# Altium integrated library Analog Devices Data Converters Analog-to-Digital Converters.IntLib: 2400 symbols (part 333 of 338)
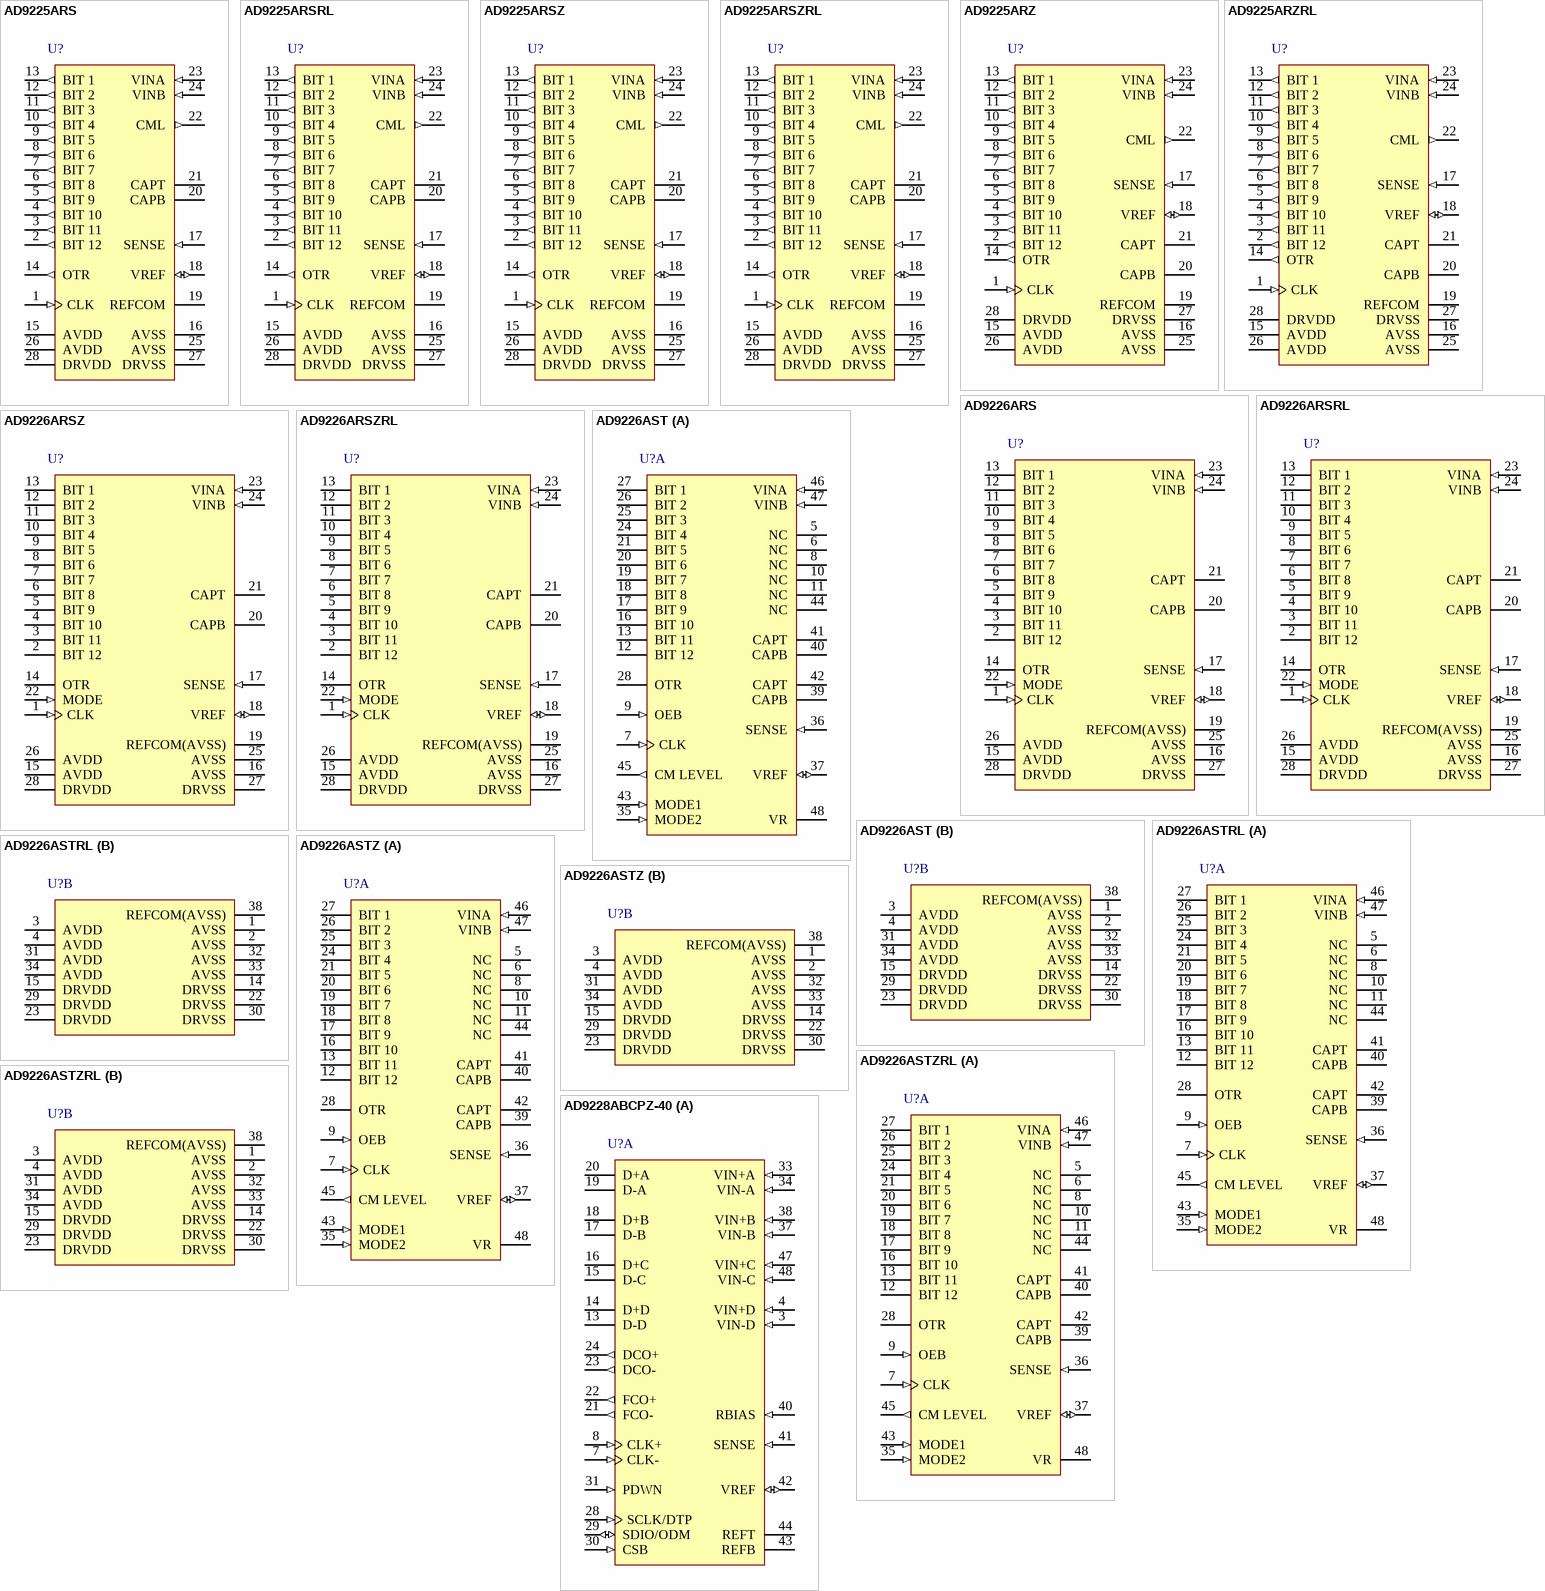
[diagram p336: symbols AD9225ARS to AD9228ABCPZ-40]

## AD9226AST
designator U?
Single 12-Bit Analog-to-Digital Converter with Parallel Interface, 65MSPS, -40 to +85 degC, ST-48, Tray; Part Number: AD9226; Manufacturer: Analog Devices; Resolution (Bits): 12; Channels: 1; Throughput Rate (SPS): 65M; Interface: Par; DatasheetVersion: Rev.B; PackageVersion: revA; PackageReference: ST-48; PackageDescription: 48-Pin Thin Quad Flat Pack 0.5 mm Pitch; RoHS: N; Packing: Tray; Mounting Technology: Surface Mount; ComponentLink1Description: Manufacturer URL; ComponentLink1URL: http://www.analog.com/en/index.html; ComponentLink2Description: Datasheet; ComponentLink2URL: http://www.analog.com/static/imported-files/data_sheets/AD9226.pdf; ComponentLink3Description: Package Specification; ComponentLink3URL: http://www.analog.com/static/imported-files/packages/PKG_PDF/LQFP%28ST%29/ST_48.pdf; ComponentLink4Description: Product URL; ComponentLink4URL: http://www.analog.com/en/analog-to-digital-converters/ad-converters/ad9226/products/product.html
footprint ST-48_N (Thin QFP, 48-Leads, Body 7x7mm, Pitch 0.5mm, IPC Medium Density)
footprint ST-48_L (Thin QFP, 48-Leads, Body 7x7mm, Pitch 0.5mm, IPC High Density)
footprint ST-48_M (Thin QFP, 48-Leads, Body 7x7mm, Pitch 0.5mm, IPC Low Density)
part A pins: 5 NC "No Connect", 6 NC "No Connect", 7 CLK (in) "Clock Input Pin", 8 NC "No Connect", 9 OEB (in) "O\u\t\p\u\t\_\E\n\a\b\l\e\ (Active Low)", 10 NC "No Connect", 11 NC "No Connect", 12 BIT 12 (hiz) "Least Significant Data Bit (LSB)", 13 BIT 11 (hiz) "Data Output Bit", 16 BIT 10 (hiz) "Data Output Bit", 17 BIT 9 (hiz) "Data Output Bit", 18 BIT 8 (hiz) "Data Output Bit", 19 BIT 7 (hiz) "Data Output Bit", 20 BIT 6 (hiz) "Data Output Bit", 21 BIT 5 (hiz) "Data Output Bit", 24 BIT 4 (hiz) "Data Output Bit", 25 BIT 3 (hiz) "Data Output Bit", 26 BIT 2 (hiz) "Data Output Bit", 27 BIT 1 (hiz) "Most Significant Data Bit (MSB)", 28 OTR (hiz) "Out of Range", 35 MODE2 (in) "Data Format Select", 36 SENSE (in) "Reference Select", 37 VREF (io) "Reference In/Out", 39 CAPB "Noise Reduction Pin", 40 CAPB "Noise Reduction Pin", 41 CAPT "Noise Reduction Pin", 42 CAPT "Noise Reduction Pin", 43 MODE1 (in) "Clock Stabilizer", 44 NC "No Connect", 45 CM LEVEL (out) "Midsupply Reference", 46 VINA (in) "Analog Input Pin (+)", 47 VINB (in) "Analog Input Pin (-)", 48 VR "Noise Reduction Pin"
part B pins: 1 AVSS (power) "Analog Ground", 2 AVSS (power) "Analog Ground", 3 AVDD (power) "5 V Analog Supply", 4 AVDD (power) "5 V Analog Supply", 14 DRVSS (power) "Digital Output Driver Ground", 15 DRVDD (power) "3 V to 5 V Digital Output Driver Supply", 22 DRVSS (power) "Digital Output Driver Ground", 23 DRVDD (power) "3 V to 5 V Digital Output Driver Supply", 29 DRVDD (power) "3 V to 5 V Digital Output Driver Supply", 30 DRVSS (power) "Digital Output Driver Ground", 31 AVDD (power) "5 V Analog Supply", 32 AVSS (power) "Analog Ground", 33 AVSS (power) "Analog Ground", 34 AVDD (power) "5 V Analog Supply", 38 REFCOM(AVSS) (power) "Reference Common"

## AD9226ASTRL
designator U?
Single 12-Bit Analog-to-Digital Converter with Parallel Interface, 65MSPS, -40 to +85 degC, ST-48, Reel; Part Number: AD9226; Manufacturer: Analog Devices; Resolution (Bits): 12; Channels: 1; Throughput Rate (SPS): 65M; Interface: Par; DatasheetVersion: Rev.B; PackageVersion: revA; PackageReference: ST-48; PackageDescription: 48-Pin Thin Quad Flat Pack 0.5 mm Pitch; RoHS: N; Packing: Reel; Mounting Technology: Surface Mount; ComponentLink1Description: Manufacturer URL; ComponentLink1URL: http://www.analog.com/en/index.html; ComponentLink2Description: Datasheet; ComponentLink2URL: http://www.analog.com/static/imported-files/data_sheets/AD9226.pdf; ComponentLink3Description: Package Specification; ComponentLink3URL: http://www.analog.com/static/imported-files/packages/PKG_PDF/LQFP%28ST%29/ST_48.pdf; ComponentLink4Description: Product URL; ComponentLink4URL: http://www.analog.com/en/analog-to-digital-converters/ad-converters/ad9226/products/product.html
footprint ST-48_N (Thin QFP, 48-Leads, Body 7x7mm, Pitch 0.5mm, IPC Medium Density)
footprint ST-48_L (Thin QFP, 48-Leads, Body 7x7mm, Pitch 0.5mm, IPC High Density)
footprint ST-48_M (Thin QFP, 48-Leads, Body 7x7mm, Pitch 0.5mm, IPC Low Density)
part A pins: 5 NC "No Connect", 6 NC "No Connect", 7 CLK (in) "Clock Input Pin", 8 NC "No Connect", 9 OEB (in) "O\u\t\p\u\t\_\E\n\a\b\l\e\ (Active Low)", 10 NC "No Connect", 11 NC "No Connect", 12 BIT 12 (hiz) "Least Significant Data Bit (LSB)", 13 BIT 11 (hiz) "Data Output Bit", 16 BIT 10 (hiz) "Data Output Bit", 17 BIT 9 (hiz) "Data Output Bit", 18 BIT 8 (hiz) "Data Output Bit", 19 BIT 7 (hiz) "Data Output Bit", 20 BIT 6 (hiz) "Data Output Bit", 21 BIT 5 (hiz) "Data Output Bit", 24 BIT 4 (hiz) "Data Output Bit", 25 BIT 3 (hiz) "Data Output Bit", 26 BIT 2 (hiz) "Data Output Bit", 27 BIT 1 (hiz) "Most Significant Data Bit (MSB)", 28 OTR (hiz) "Out of Range", 35 MODE2 (in) "Data Format Select", 36 SENSE (in) "Reference Select", 37 VREF (io) "Reference In/Out", 39 CAPB "Noise Reduction Pin", 40 CAPB "Noise Reduction Pin", 41 CAPT "Noise Reduction Pin", 42 CAPT "Noise Reduction Pin", 43 MODE1 (in) "Clock Stabilizer", 44 NC "No Connect", 45 CM LEVEL (out) "Midsupply Reference", 46 VINA (in) "Analog Input Pin (+)", 47 VINB (in) "Analog Input Pin (-)", 48 VR "Noise Reduction Pin"
part B pins: 1 AVSS (power) "Analog Ground", 2 AVSS (power) "Analog Ground", 3 AVDD (power) "5 V Analog Supply", 4 AVDD (power) "5 V Analog Supply", 14 DRVSS (power) "Digital Output Driver Ground", 15 DRVDD (power) "3 V to 5 V Digital Output Driver Supply", 22 DRVSS (power) "Digital Output Driver Ground", 23 DRVDD (power) "3 V to 5 V Digital Output Driver Supply", 29 DRVDD (power) "3 V to 5 V Digital Output Driver Supply", 30 DRVSS (power) "Digital Output Driver Ground", 31 AVDD (power) "5 V Analog Supply", 32 AVSS (power) "Analog Ground", 33 AVSS (power) "Analog Ground", 34 AVDD (power) "5 V Analog Supply", 38 REFCOM(AVSS) (power) "Reference Common"

## AD9226ASTZ
designator U?
Single 12-Bit Analog-to-Digital Converter with Parallel Interface, 65MSPS, -40 to +85 degC, ST-48, Pb-Free, Tray; Part Number: AD9226; Manufacturer: Analog Devices; Resolution (Bits): 12; Channels: 1; Throughput Rate (SPS): 65M; Interface: Par; DatasheetVersion: Rev.B; PackageVersion: revA; PackageReference: ST-48; PackageDescription: 48-Pin Thin Quad Flat Pack 0.5 mm Pitch; RoHS: Y; Packing: Tray; Mounting Technology: Surface Mount; ComponentLink1Description: Manufacturer URL; ComponentLink1URL: http://www.analog.com/en/index.html; ComponentLink2Description: Datasheet; ComponentLink2URL: http://www.analog.com/static/imported-files/data_sheets/AD9226.pdf; ComponentLink3Description: Package Specification; ComponentLink3URL: http://www.analog.com/static/imported-files/packages/PKG_PDF/LQFP%28ST%29/ST_48.pdf; ComponentLink4Description: Product URL; ComponentLink4URL: http://www.analog.com/en/analog-to-digital-converters/ad-converters/ad9226/products/product.html
footprint ST-48_N (Thin QFP, 48-Leads, Body 7x7mm, Pitch 0.5mm, IPC Medium Density)
footprint ST-48_L (Thin QFP, 48-Leads, Body 7x7mm, Pitch 0.5mm, IPC High Density)
footprint ST-48_M (Thin QFP, 48-Leads, Body 7x7mm, Pitch 0.5mm, IPC Low Density)
part A pins: 5 NC "No Connect", 6 NC "No Connect", 7 CLK (in) "Clock Input Pin", 8 NC "No Connect", 9 OEB (in) "O\u\t\p\u\t\_\E\n\a\b\l\e\ (Active Low)", 10 NC "No Connect", 11 NC "No Connect", 12 BIT 12 (hiz) "Least Significant Data Bit (LSB)", 13 BIT 11 (hiz) "Data Output Bit", 16 BIT 10 (hiz) "Data Output Bit", 17 BIT 9 (hiz) "Data Output Bit", 18 BIT 8 (hiz) "Data Output Bit", 19 BIT 7 (hiz) "Data Output Bit", 20 BIT 6 (hiz) "Data Output Bit", 21 BIT 5 (hiz) "Data Output Bit", 24 BIT 4 (hiz) "Data Output Bit", 25 BIT 3 (hiz) "Data Output Bit", 26 BIT 2 (hiz) "Data Output Bit", 27 BIT 1 (hiz) "Most Significant Data Bit (MSB)", 28 OTR (hiz) "Out of Range", 35 MODE2 (in) "Data Format Select", 36 SENSE (in) "Reference Select", 37 VREF (io) "Reference In/Out", 39 CAPB "Noise Reduction Pin", 40 CAPB "Noise Reduction Pin", 41 CAPT "Noise Reduction Pin", 42 CAPT "Noise Reduction Pin", 43 MODE1 (in) "Clock Stabilizer", 44 NC "No Connect", 45 CM LEVEL (out) "Midsupply Reference", 46 VINA (in) "Analog Input Pin (+)", 47 VINB (in) "Analog Input Pin (-)", 48 VR "Noise Reduction Pin"
part B pins: 1 AVSS (power) "Analog Ground", 2 AVSS (power) "Analog Ground", 3 AVDD (power) "5 V Analog Supply", 4 AVDD (power) "5 V Analog Supply", 14 DRVSS (power) "Digital Output Driver Ground", 15 DRVDD (power) "3 V to 5 V Digital Output Driver Supply", 22 DRVSS (power) "Digital Output Driver Ground", 23 DRVDD (power) "3 V to 5 V Digital Output Driver Supply", 29 DRVDD (power) "3 V to 5 V Digital Output Driver Supply", 30 DRVSS (power) "Digital Output Driver Ground", 31 AVDD (power) "5 V Analog Supply", 32 AVSS (power) "Analog Ground", 33 AVSS (power) "Analog Ground", 34 AVDD (power) "5 V Analog Supply", 38 REFCOM(AVSS) (power) "Reference Common"

## AD9226ASTZRL
designator U?
Single 12-Bit Analog-to-Digital Converter with Parallel Interface, 65MSPS, -40 to +85 degC, ST-48, Pb-Free, Reel; Part Number: AD9226; Manufacturer: Analog Devices; Resolution (Bits): 12; Channels: 1; Throughput Rate (SPS): 65M; Interface: Par; DatasheetVersion: Rev.B; PackageVersion: revA; PackageReference: ST-48; PackageDescription: 48-Pin Thin Quad Flat Pack 0.5 mm Pitch; RoHS: Y; Packing: Reel; Mounting Technology: Surface Mount; ComponentLink1Description: Manufacturer URL; ComponentLink1URL: http://www.analog.com/en/index.html; ComponentLink2Description: Datasheet; ComponentLink2URL: http://www.analog.com/static/imported-files/data_sheets/AD9226.pdf; ComponentLink3Description: Package Specification; ComponentLink3URL: http://www.analog.com/static/imported-files/packages/PKG_PDF/LQFP%28ST%29/ST_48.pdf; ComponentLink4Description: Product URL; ComponentLink4URL: http://www.analog.com/en/analog-to-digital-converters/ad-converters/ad9226/products/product.html
footprint ST-48_N (Thin QFP, 48-Leads, Body 7x7mm, Pitch 0.5mm, IPC Medium Density)
footprint ST-48_L (Thin QFP, 48-Leads, Body 7x7mm, Pitch 0.5mm, IPC High Density)
footprint ST-48_M (Thin QFP, 48-Leads, Body 7x7mm, Pitch 0.5mm, IPC Low Density)
part A pins: 5 NC "No Connect", 6 NC "No Connect", 7 CLK (in) "Clock Input Pin", 8 NC "No Connect", 9 OEB (in) "O\u\t\p\u\t\_\E\n\a\b\l\e\ (Active Low)", 10 NC "No Connect", 11 NC "No Connect", 12 BIT 12 (hiz) "Least Significant Data Bit (LSB)", 13 BIT 11 (hiz) "Data Output Bit", 16 BIT 10 (hiz) "Data Output Bit", 17 BIT 9 (hiz) "Data Output Bit", 18 BIT 8 (hiz) "Data Output Bit", 19 BIT 7 (hiz) "Data Output Bit", 20 BIT 6 (hiz) "Data Output Bit", 21 BIT 5 (hiz) "Data Output Bit", 24 BIT 4 (hiz) "Data Output Bit", 25 BIT 3 (hiz) "Data Output Bit", 26 BIT 2 (hiz) "Data Output Bit", 27 BIT 1 (hiz) "Most Significant Data Bit (MSB)", 28 OTR (hiz) "Out of Range", 35 MODE2 (in) "Data Format Select", 36 SENSE (in) "Reference Select", 37 VREF (io) "Reference In/Out", 39 CAPB "Noise Reduction Pin", 40 CAPB "Noise Reduction Pin", 41 CAPT "Noise Reduction Pin", 42 CAPT "Noise Reduction Pin", 43 MODE1 (in) "Clock Stabilizer", 44 NC "No Connect", 45 CM LEVEL (out) "Midsupply Reference", 46 VINA (in) "Analog Input Pin (+)", 47 VINB (in) "Analog Input Pin (-)", 48 VR "Noise Reduction Pin"
part B pins: 1 AVSS (power) "Analog Ground", 2 AVSS (power) "Analog Ground", 3 AVDD (power) "5 V Analog Supply", 4 AVDD (power) "5 V Analog Supply", 14 DRVSS (power) "Digital Output Driver Ground", 15 DRVDD (power) "3 V to 5 V Digital Output Driver Supply", 22 DRVSS (power) "Digital Output Driver Ground", 23 DRVDD (power) "3 V to 5 V Digital Output Driver Supply", 29 DRVDD (power) "3 V to 5 V Digital Output Driver Supply", 30 DRVSS (power) "Digital Output Driver Ground", 31 AVDD (power) "5 V Analog Supply", 32 AVSS (power) "Analog Ground", 33 AVSS (power) "Analog Ground", 34 AVDD (power) "5 V Analog Supply", 38 REFCOM(AVSS) (power) "Reference Common"

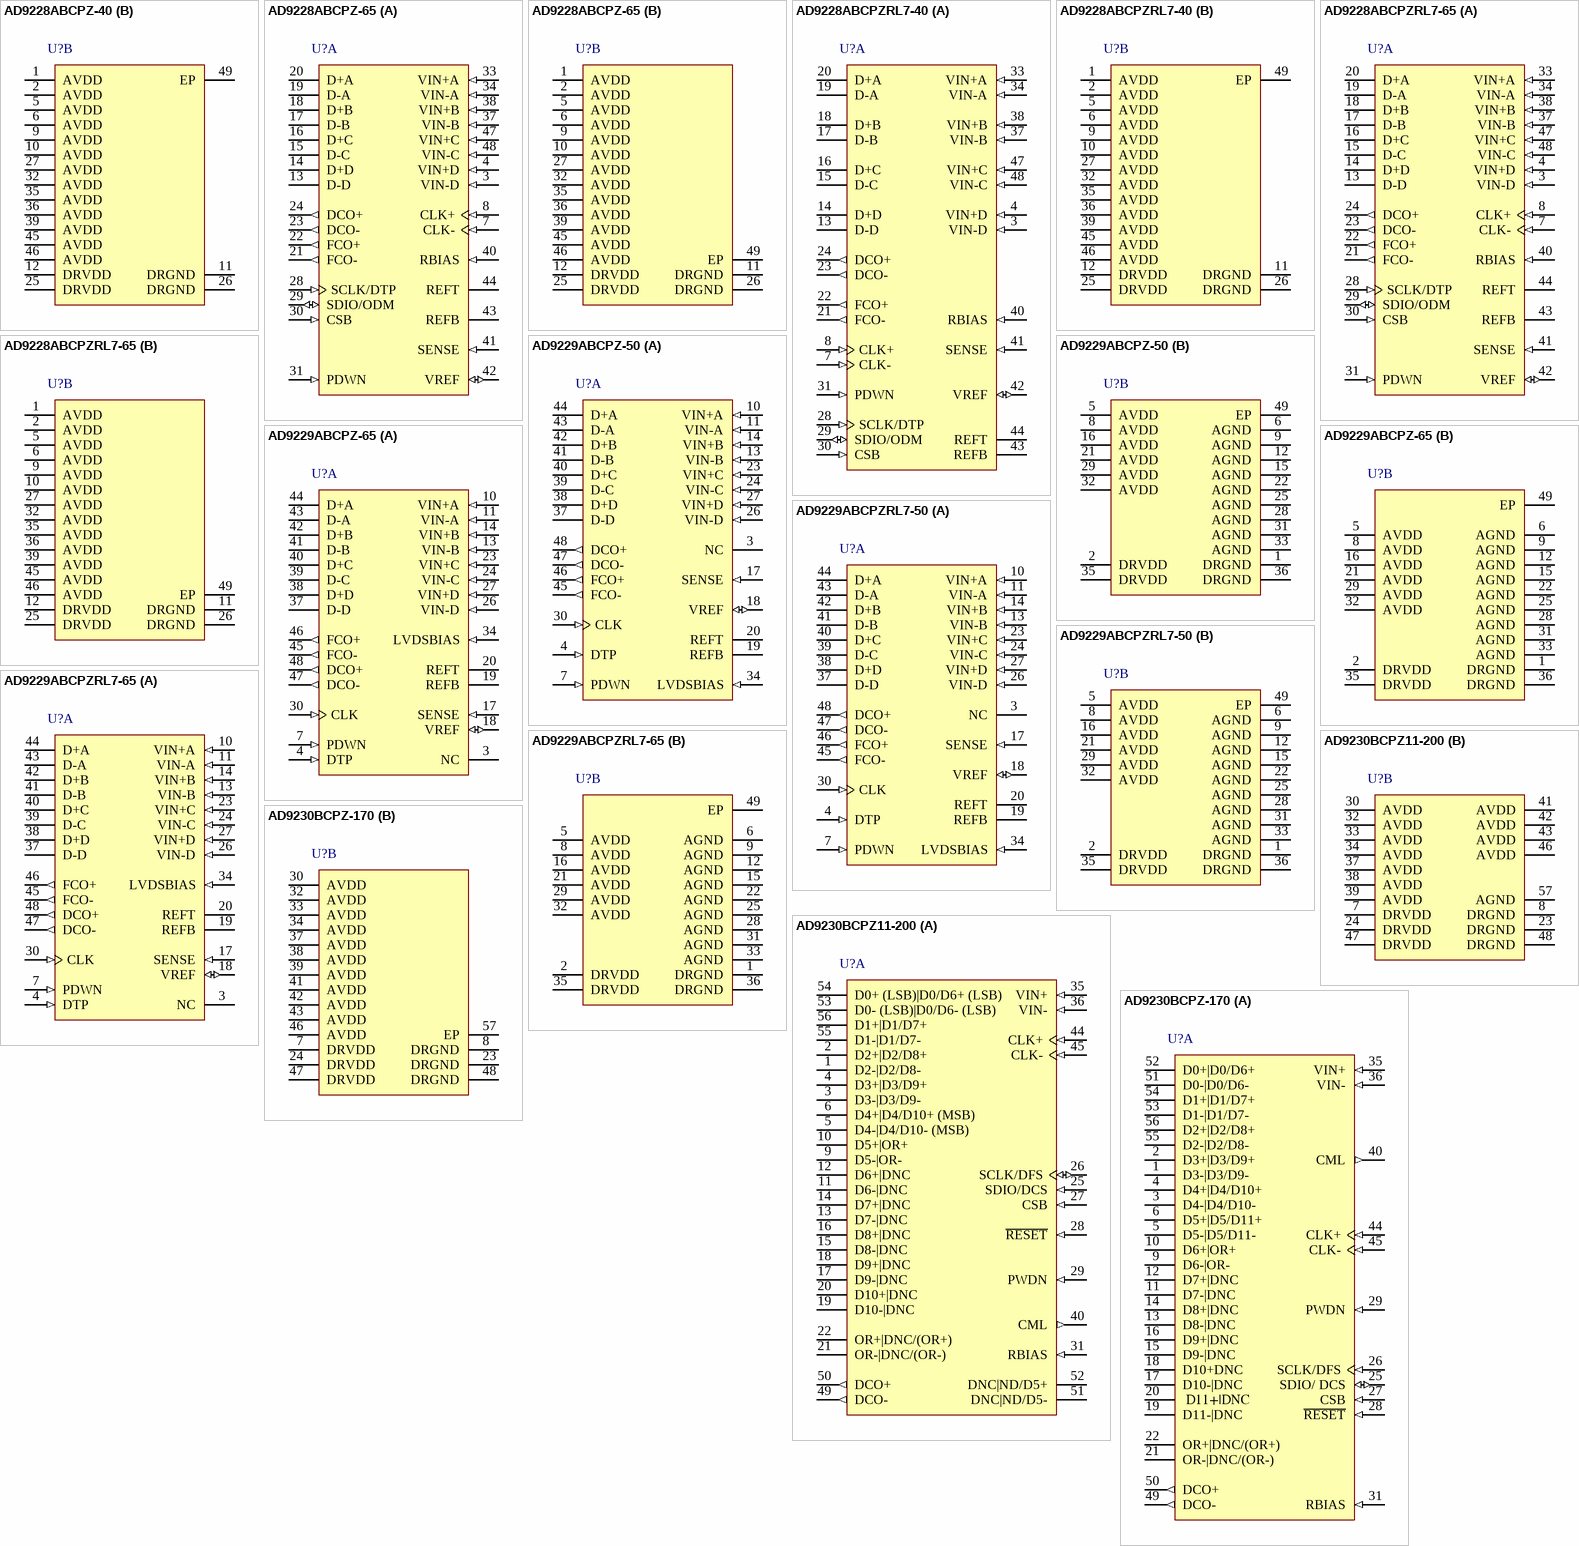
[diagram p106: symbols AD9228ABCPZ-40 to AD9230BCPZ-170]

## AD9228ABCPZ-40
designator U?
Quad 12-Bit Analog-to-Digital Converter with LVDS, Serial Interface, 40MSPS, -40 to +85 degC, CP-48-8, Pb-Free, Tray; Part Number: AD9228-40; Manufacturer: Analog Devices; Resolution (Bits): 12; Channels: 4; Throughput Rate (SPS): 40M; DatasheetVersion: Rev.E; PackageVersion: 02-23-2010-C; PackageReference: CP-48-8; PackageDescription: 48-Lead Lead Frame Chip Scale Package [LFCSP_VQ] 7 x 7 mm Body, Very Thin Quad; Interface: LVDS, Ser; RoHS: Y; Packing: Tray; Mounting Technology: Surface Mount; Code_JEDEC: MO-220-VKKD-2; ComponentLink1Description: Manufacturer URL; ComponentLink1URL: http://www.analog.com/en/index.html; ComponentLink2Description: Datasheet; ComponentLink2URL: http://www.analog.com/static/imported-files/data_sheets/AD9228.pdf; ComponentLink3Description: Package Specification; ComponentLink3URL: http://www.analog.com/static/imported-files/packages/PKG_PDF/LFCSP(CP)/CP_48_8.pdf; ComponentLink4Description: Product URL; ComponentLink4URL: http://www.analog.com/en/analog-to-digital-converters/ad-converters/ad9228/products/product.html
footprint CP-48-8_N (QFN, 48-Leads, Body 7x7mm, Pitch 0.5mm, Thermal Pad 5.5x5.5mm, IPC Medium Density)
footprint CP-48-8_L (QFN, 48-Leads, Body 7x7mm, Pitch 0.5mm, Thermal Pad 5.5x5.5mm, IPC High Density)
footprint CP-48-8_M (QFN, 48-Leads, Body 7x7mm, Pitch 0.5mm, Thermal Pad 5.5x5.5mm, IPC Low Density)
part A pins: 3 VIN-D (in) "ADC D Analog Input Complement", 4 VIN+D (in) "ADC D Analog Input True", 7 CLK- (in) "Input Clock Complement", 8 CLK+ (in) "Input Clock True", 13 D-D (hiz) "ADC D Digital Output Complement", 14 D+D (hiz) "ADC D Digital Output True", 15 D-C (hiz) "ADC C Digital Output Complement", 16 D+C (hiz) "ADC C Digital Output True", 17 D-B (hiz) "ADC B Digital Output Complement", 18 D+B (hiz) "ADC B Digital Output True", 19 D-A (hiz) "ADC A Digital Output Complement", 20 D+A (hiz) "ADC A Digital Output True", 21 FCO- (out) "Frame Clock Output Complement", 22 FCO+ (out) "Frame Clock Output True", 23 DCO- (out) "Data Clock Output Complement", 24 DCO+ (out) "Data Clock Output True", 28 SCLK/DTP (in) "Serial Clock/Digital Test Pattern", 29 SDIO/ODM (io) "Serial Data IO/Output Driver Mode", 30 CSB (in) "Chip Select Bar", 31 PDWN (in) "Power-Down", 33 VIN+A (in) "ADC A Analog Input True", 34 VIN-A (in) "ADC A Analog Input Complement", 37 VIN-B (in) "ADC B Analog Input Complement", 38 VIN+B (in) "ADC B Analog Input True", 40 RBIAS (in) "External resistor sets the internal ADC core bias current", 41 SENSE (in) "Reference Mode Selection", 42 VREF (io) "Voltage Reference Input/Output", 43 REFB "Differential Reference (Negative)", 44 REFT "Differential Reference (Positive)", 47 VIN+C (in) "ADC C Analog Input True", 48 VIN-C (in) "ADC C Analog Input Complement"
part B pins: 1 AVDD (power) "1.8 V Analog Supply", 2 AVDD (power) "1.8 V Analog Supply", 5 AVDD (power) "1.8 V Analog Supply", 6 AVDD (power) "1.8 V Analog Supply", 9 AVDD (power) "1.8 V Analog Supply", 10 AVDD (power) "1.8 V Analog Supply", 11 DRGND (power) "Digital Output Driver Ground", 12 DRVDD (power) "1.8 V Digital Output Driver Supply", 25 DRVDD (power) "1.8 V Digital Output Driver Supply", 26 DRGND (power) "Digital Output Driver Ground", 27 AVDD (power) "1.8 V Analog Supply", 32 AVDD (power) "1.8 V Analog Supply", 35 AVDD (power) "1.8 V Analog Supply", 36 AVDD (power) "1.8 V Analog Supply", 39 AVDD (power) "1.8 V Analog Supply", 45 AVDD (power) "1.8 V Analog Supply", 46 AVDD (power) "1.8 V Analog Supply", 49 EP (power) "Analog Ground (Exposed Paddle)"

## AD9228ABCPZ-65
designator U?
Quad 12-Bit Analog-to-Digital Converter with LVDS, Serial Interface, 65MSPS, -40 to +85 degC, CP-48-8, Pb-Free, Tray; Part Number: AD9228-65; Manufacturer: Analog Devices; Resolution (Bits): 12; Channels: 4; Throughput Rate (SPS): 65M; DatasheetVersion: Rev.E; PackageVersion: 02-23-2010-C; PackageReference: CP-48-8; PackageDescription: 48-Lead Lead Frame Chip Scale Package [LFCSP_VQ] 7 x 7 mm Body, Very Thin Quad; Interface: LVDS, Ser; RoHS: Y; Packing: Tray; Mounting Technology: Surface Mount; Code_JEDEC: MO-220-VKKD-2; ComponentLink1Description: Manufacturer URL; ComponentLink1URL: http://www.analog.com/en/index.html; ComponentLink2Description: Datasheet; ComponentLink2URL: http://www.analog.com/static/imported-files/data_sheets/AD9228.pdf; ComponentLink3Description: Package Specification; ComponentLink3URL: http://www.analog.com/static/imported-files/packages/PKG_PDF/LFCSP(CP)/CP_48_8.pdf; ComponentLink4Description: Product URL; ComponentLink4URL: http://www.analog.com/en/analog-to-digital-converters/ad-converters/ad9228/products/product.html
footprint CP-48-8_N (QFN, 48-Leads, Body 7x7mm, Pitch 0.5mm, Thermal Pad 5.5x5.5mm, IPC Medium Density)
footprint CP-48-8_L (QFN, 48-Leads, Body 7x7mm, Pitch 0.5mm, Thermal Pad 5.5x5.5mm, IPC High Density)
footprint CP-48-8_M (QFN, 48-Leads, Body 7x7mm, Pitch 0.5mm, Thermal Pad 5.5x5.5mm, IPC Low Density)
part A pins: 3 VIN-D (in) "ADC D Analog Input Complement", 4 VIN+D (in) "ADC D Analog Input True", 7 CLK- (in) "Input Clock Complement", 8 CLK+ (in) "Input Clock True", 13 D-D (hiz) "ADC D Digital Output Complement", 14 D+D (hiz) "ADC D Digital Output True", 15 D-C (hiz) "ADC C Digital Output Complement", 16 D+C (hiz) "ADC C Digital Output True", 17 D-B (hiz) "ADC B Digital Output Complement", 18 D+B (hiz) "ADC B Digital Output True", 19 D-A (hiz) "ADC A Digital Output Complement", 20 D+A (hiz) "ADC A Digital Output True", 21 FCO- (out) "Frame Clock Output Complement", 22 FCO+ (out) "Frame Clock Output True", 23 DCO- (out) "Data Clock Output Complement", 24 DCO+ (out) "Data Clock Output True", 28 SCLK/DTP (in) "Serial Clock/Digital Test Pattern", 29 SDIO/ODM (io) "Serial Data IO/Output Driver Mode", 30 CSB (in) "Chip Select Bar", 31 PDWN (in) "Power-Down", 33 VIN+A (in) "ADC A Analog Input True", 34 VIN-A (in) "ADC A Analog Input Complement", 37 VIN-B (in) "ADC B Analog Input Complement", 38 VIN+B (in) "ADC B Analog Input True", 40 RBIAS (in) "External resistor sets the internal ADC core bias current", 41 SENSE (in) "Reference Mode Selection", 42 VREF (io) "Voltage Reference Input/Output", 43 REFB "Differential Reference (Negative)", 44 REFT "Differential Reference (Positive)", 47 VIN+C (in) "ADC C Analog Input True", 48 VIN-C (in) "ADC C Analog Input Complement"
part B pins: 1 AVDD (power) "1.8 V Analog Supply", 2 AVDD (power) "1.8 V Analog Supply", 5 AVDD (power) "1.8 V Analog Supply", 6 AVDD (power) "1.8 V Analog Supply", 9 AVDD (power) "1.8 V Analog Supply", 10 AVDD (power) "1.8 V Analog Supply", 11 DRGND (power) "Digital Output Driver Ground", 12 DRVDD (power) "1.8 V Digital Output Driver Supply", 25 DRVDD (power) "1.8 V Digital Output Driver Supply", 26 DRGND (power) "Digital Output Driver Ground", 27 AVDD (power) "1.8 V Analog Supply", 32 AVDD (power) "1.8 V Analog Supply", 35 AVDD (power) "1.8 V Analog Supply", 36 AVDD (power) "1.8 V Analog Supply", 39 AVDD (power) "1.8 V Analog Supply", 45 AVDD (power) "1.8 V Analog Supply", 46 AVDD (power) "1.8 V Analog Supply", 49 EP (power) "Analog Ground (Exposed Paddle)"

## AD9228ABCPZRL7-40
designator U?
Quad 12-Bit Analog-to-Digital Converter with LVDS, Serial Interface, 40MSPS, -40 to +85 degC, CP-48-8, Pb-Free,Reel; Part Number: AD9228-40; Manufacturer: Analog Devices; Resolution (Bits): 12; Channels: 4; Throughput Rate (SPS): 40M; DatasheetVersion: Rev.E; PackageVersion: 02-23-2010-C; PackageReference: CP-48-8; PackageDescription: 48-Lead Lead Frame Chip Scale Package [LFCSP_VQ] 7 x 7 mm Body, Very Thin Quad; Interface: LVDS, Ser; RoHS: Y; Packing: Reel; Mounting Technology: Surface Mount; Code_JEDEC: MO-220-VKKD-2; ComponentLink1Description: Manufacturer URL; ComponentLink1URL: http://www.analog.com/en/index.html; ComponentLink2Description: Datasheet; ComponentLink2URL: http://www.analog.com/static/imported-files/data_sheets/AD9228.pdf; ComponentLink3Description: Package Specification; ComponentLink3URL: http://www.analog.com/static/imported-files/packages/PKG_PDF/LFCSP(CP)/CP_48_8.pdf; ComponentLink4Description: Product URL; ComponentLink4URL: http://www.analog.com/en/analog-to-digital-converters/ad-converters/ad9228/products/product.html
footprint CP-48-8_N (QFN, 48-Leads, Body 7x7mm, Pitch 0.5mm, Thermal Pad 5.5x5.5mm, IPC Medium Density)
footprint CP-48-8_L (QFN, 48-Leads, Body 7x7mm, Pitch 0.5mm, Thermal Pad 5.5x5.5mm, IPC High Density)
footprint CP-48-8_M (QFN, 48-Leads, Body 7x7mm, Pitch 0.5mm, Thermal Pad 5.5x5.5mm, IPC Low Density)
part A pins: 3 VIN-D (in) "ADC D Analog Input Complement", 4 VIN+D (in) "ADC D Analog Input True", 7 CLK- (in) "Input Clock Complement", 8 CLK+ (in) "Input Clock True", 13 D-D (hiz) "ADC D Digital Output Complement", 14 D+D (hiz) "ADC D Digital Output True", 15 D-C (hiz) "ADC C Digital Output Complement", 16 D+C (hiz) "ADC C Digital Output True", 17 D-B (hiz) "ADC B Digital Output Complement", 18 D+B (hiz) "ADC B Digital Output True", 19 D-A (hiz) "ADC A Digital Output Complement", 20 D+A (hiz) "ADC A Digital Output True", 21 FCO- (out) "Frame Clock Output Complement", 22 FCO+ (out) "Frame Clock Output True", 23 DCO- (out) "Data Clock Output Complement", 24 DCO+ (out) "Data Clock Output True", 28 SCLK/DTP (in) "Serial Clock/Digital Test Pattern", 29 SDIO/ODM (io) "Serial Data IO/Output Driver Mode", 30 CSB (in) "Chip Select Bar", 31 PDWN (in) "Power-Down", 33 VIN+A (in) "ADC A Analog Input True", 34 VIN-A (in) "ADC A Analog Input Complement", 37 VIN-B (in) "ADC B Analog Input Complement", 38 VIN+B (in) "ADC B Analog Input True", 40 RBIAS (in) "External resistor sets the internal ADC core bias current", 41 SENSE (in) "Reference Mode Selection", 42 VREF (io) "Voltage Reference Input/Output", 43 REFB "Differential Reference (Negative)", 44 REFT "Differential Reference (Positive)", 47 VIN+C (in) "ADC C Analog Input True", 48 VIN-C (in) "ADC C Analog Input Complement"
part B pins: 1 AVDD (power) "1.8 V Analog Supply", 2 AVDD (power) "1.8 V Analog Supply", 5 AVDD (power) "1.8 V Analog Supply", 6 AVDD (power) "1.8 V Analog Supply", 9 AVDD (power) "1.8 V Analog Supply", 10 AVDD (power) "1.8 V Analog Supply", 11 DRGND (power) "Digital Output Driver Ground", 12 DRVDD (power) "1.8 V Digital Output Driver Supply", 25 DRVDD (power) "1.8 V Digital Output Driver Supply", 26 DRGND (power) "Digital Output Driver Ground", 27 AVDD (power) "1.8 V Analog Supply", 32 AVDD (power) "1.8 V Analog Supply", 35 AVDD (power) "1.8 V Analog Supply", 36 AVDD (power) "1.8 V Analog Supply", 39 AVDD (power) "1.8 V Analog Supply", 45 AVDD (power) "1.8 V Analog Supply", 46 AVDD (power) "1.8 V Analog Supply", 49 EP (power) "Analog Ground (Exposed Paddle)"

## AD9228ABCPZRL7-65
designator U?
Quad 12-Bit Analog-to-Digital Converter with LVDS, Serial Interface, 65MSPS, -40 to +85 degC, CP-48-8, Pb-Free, Reel; Part Number: AD9228-65; Manufacturer: Analog Devices; Resolution (Bits): 12; Channels: 4; Throughput Rate (SPS): 65M; DatasheetVersion: Rev.E; PackageVersion: 02-23-2010-C; PackageReference: CP-48-8; PackageDescription: 48-Lead Lead Frame Chip Scale Package [LFCSP_VQ] 7 x 7 mm Body, Very Thin Quad; Interface: LVDS, Ser; RoHS: Y; Packing: Reel; Mounting Technology: Surface Mount; Code_JEDEC: MO-220-VKKD-2; ComponentLink1Description: Manufacturer URL; ComponentLink1URL: http://www.analog.com/en/index.html; ComponentLink2Description: Datasheet; ComponentLink2URL: http://www.analog.com/static/imported-files/data_sheets/AD9228.pdf; ComponentLink3Description: Package Specification; ComponentLink3URL: http://www.analog.com/static/imported-files/packages/PKG_PDF/LFCSP(CP)/CP_48_8.pdf; ComponentLink4Description: Product URL; ComponentLink4URL: http://www.analog.com/en/analog-to-digital-converters/ad-converters/ad9228/products/product.html
footprint CP-48-8_N (QFN, 48-Leads, Body 7x7mm, Pitch 0.5mm, Thermal Pad 5.5x5.5mm, IPC Medium Density)
footprint CP-48-8_L (QFN, 48-Leads, Body 7x7mm, Pitch 0.5mm, Thermal Pad 5.5x5.5mm, IPC High Density)
footprint CP-48-8_M (QFN, 48-Leads, Body 7x7mm, Pitch 0.5mm, Thermal Pad 5.5x5.5mm, IPC Low Density)
part A pins: 3 VIN-D (in) "ADC D Analog Input Complement", 4 VIN+D (in) "ADC D Analog Input True", 7 CLK- (in) "Input Clock Complement", 8 CLK+ (in) "Input Clock True", 13 D-D (hiz) "ADC D Digital Output Complement", 14 D+D (hiz) "ADC D Digital Output True", 15 D-C (hiz) "ADC C Digital Output Complement", 16 D+C (hiz) "ADC C Digital Output True", 17 D-B (hiz) "ADC B Digital Output Complement", 18 D+B (hiz) "ADC B Digital Output True", 19 D-A (hiz) "ADC A Digital Output Complement", 20 D+A (hiz) "ADC A Digital Output True", 21 FCO- (out) "Frame Clock Output Complement", 22 FCO+ (out) "Frame Clock Output True", 23 DCO- (out) "Data Clock Output Complement", 24 DCO+ (out) "Data Clock Output True", 28 SCLK/DTP (in) "Serial Clock/Digital Test Pattern", 29 SDIO/ODM (io) "Serial Data IO/Output Driver Mode", 30 CSB (in) "Chip Select Bar", 31 PDWN (in) "Power-Down", 33 VIN+A (in) "ADC A Analog Input True", 34 VIN-A (in) "ADC A Analog Input Complement", 37 VIN-B (in) "ADC B Analog Input Complement", 38 VIN+B (in) "ADC B Analog Input True", 40 RBIAS (in) "External resistor sets the internal ADC core bias current", 41 SENSE (in) "Reference Mode Selection", 42 VREF (io) "Voltage Reference Input/Output", 43 REFB "Differential Reference (Negative)", 44 REFT "Differential Reference (Positive)", 47 VIN+C (in) "ADC C Analog Input True", 48 VIN-C (in) "ADC C Analog Input Complement"
part B pins: 1 AVDD (power) "1.8 V Analog Supply", 2 AVDD (power) "1.8 V Analog Supply", 5 AVDD (power) "1.8 V Analog Supply", 6 AVDD (power) "1.8 V Analog Supply", 9 AVDD (power) "1.8 V Analog Supply", 10 AVDD (power) "1.8 V Analog Supply", 11 DRGND (power) "Digital Output Driver Ground", 12 DRVDD (power) "1.8 V Digital Output Driver Supply", 25 DRVDD (power) "1.8 V Digital Output Driver Supply", 26 DRGND (power) "Digital Output Driver Ground", 27 AVDD (power) "1.8 V Analog Supply", 32 AVDD (power) "1.8 V Analog Supply", 35 AVDD (power) "1.8 V Analog Supply", 36 AVDD (power) "1.8 V Analog Supply", 39 AVDD (power) "1.8 V Analog Supply", 45 AVDD (power) "1.8 V Analog Supply", 46 AVDD (power) "1.8 V Analog Supply", 49 EP (power) "Analog Ground (Exposed Paddle)"

## AD9229ABCPZ-50
designator U?
Quad 12-Bit Analog-to-Digital Converter with Serial Interface, 50MSPS, -40 to +85 degC, CP-48-8, Pb-Free, Tray; Part Number: AD9229-50; Manufacturer: Analog Devices; Resolution (Bits): 12; Channels: 4; Throughput Rate (SPS): 50M; Interface: Ser; DatasheetVersion: Rev.B; PackageVersion: 02-23-2010-C; PackageReference: CP-48-8; PackageDescription: 48-Lead Lead Frame Chip Scale Package [LFCSP_VQ] 7 x 7 mm Body, Very Thin Quad; RoHS: Y; Packing: Tray; Mounting Technology: Surface Mount; Code_JEDEC: MO-220-VKKD-2; ComponentLink1Description: Manufacturer URL; ComponentLink1URL: http://www.analog.com/en/index.html; ComponentLink2Description: Datasheet; ComponentLink2URL: http://www.analog.com/static/imported-files/data_sheets/AD9229.pdf; ComponentLink3Description: Package Specification; ComponentLink3URL: http://www.analog.com/static/imported-files/packages/PKG_PDF/LFCSP(CP)/CP_48_8.pdf; ComponentLink4Description: Product URL; ComponentLink4URL: http://www.analog.com/en/analog-to-digital-converters/ad-converters/ad9229/products/product.html
footprint CP-48-8_N (QFN, 48-Leads, Body 7x7mm, Pitch 0.5mm, Thermal Pad 5.5x5.5mm, IPC Medium Density)
footprint CP-48-8_L (QFN, 48-Leads, Body 7x7mm, Pitch 0.5mm, Thermal Pad 5.5x5.5mm, IPC High Density)
footprint CP-48-8_M (QFN, 48-Leads, Body 7x7mm, Pitch 0.5mm, Thermal Pad 5.5x5.5mm, IPC Low Density)
part A pins: 3 NC "No Connect", 4 DTP (in) "Digital Test Pattern Enable", 7 PDWN (in) "Power-Down Selection (AVDD =Power Down)", 10 VIN+A (in) "ADC A Analog Input--True", 11 VIN-A (in) "ADC A Analog Input--Complement", 13 VIN-B (in) "ADC B Analog Input--Complement", 14 VIN+B (in) "ADC B Analog Input--True", 17 SENSE (in) "Reference Mode Selection", 18 VREF (io) "Voltage Reference Input/Output", 19 REFB "Differential Reference (Bottom)", 20 REFT "Differential Reference (Top)", 23 VIN+C (in) "ADC C Analog Input--True", 24 VIN-C (in) "ADC C Analog Input--Complement", 26 VIN-D (in) "ADC D Analog Input--Complement", 27 VIN+D (in) "ADC D Analog Input--True", 30 CLK (in) "Input Clock", 34 LVDSBIAS (in) "LVDS Output Current Set Resistor Pin", 37 D-D (hiz) "ADC D Complement Digital Output", 38 D+D (hiz) "ADC D True Digital Output", 39 D-C (hiz) "ADC C Complement Digital Output", 40 D+C (hiz) "ADC C True Digital Output", 41 D-B (hiz) "ADC B Complement Digital Output", 42 D+B (hiz) "ADC B True Digital Output", 43 D-A (hiz) "ADC A Complement Digital Output", 44 D+A (hiz) "ADC A True Digital Output", 45 FCO- (out) "Frame Clock Indicator--Complement Output", 46 FCO+ (out) "Frame Clock Indicator--True Output", 47 DCO- (out) "Data Clock Output--Complement", 48 DCO+ (out) "Data Clock Output--True"
part B pins: 1 DRGND (power) "Digital Ground", 2 DRVDD (power) "Digital Output Supply", 5 AVDD (power) "Analog Supply", 6 AGND (power) "Analog Ground", 8 AVDD (power) "Analog Supply", 9 AGND (power) "Analog Ground", 12 AGND (power) "Analog Ground", 15 AGND (power) "Analog Ground", 16 AVDD (power) "Analog Supply", 21 AVDD (power) "Analog Supply", 22 AGND (power) "Analog Ground", 25 AGND (power) "Analog Ground", 28 AGND (power) "Analog Ground", 29 AVDD (power) "Analog Supply", 31 AGND (power) "Analog Ground", 32 AVDD (power) "Analog Supply", 33 AGND (power) "Analog Ground", 35 DRVDD (power) "Digital Output Supply", 36 DRGND (power) "Digital Ground", 49 EP (power) "Exposed Paddle/Thermal Heat Slug (Located on Bottom of  Package)"

## AD9229ABCPZ-65
designator U?
Quad 12-Bit Analog-to-Digital Converter with Serial Interface, 65MSPS, -40 to +85 degC, CP-48-8, Pb-Free, Tray; Part Number: AD9229-65; Manufacturer: Analog Devices; Resolution (Bits): 12; Channels: 4; Throughput Rate (SPS): 65M; Interface: Ser; DatasheetVersion: Rev.B; PackageVersion: 02-23-2010-C; PackageReference: CP-48-8; PackageDescription: 48-Lead Lead Frame Chip Scale Package [LFCSP_VQ] 7 x 7 mm Body, Very Thin Quad; RoHS: Y; Packing: Tray; Mounting Technology: Surface Mount; Code_JEDEC: MO-220-VKKD-2; ComponentLink1Description: Manufacturer URL; ComponentLink1URL: http://www.analog.com/en/index.html; ComponentLink2Description: Datasheet; ComponentLink2URL: http://www.analog.com/static/imported-files/data_sheets/AD9229.pdf; ComponentLink3Description: Package Specification; ComponentLink3URL: http://www.analog.com/static/imported-files/packages/PKG_PDF/LFCSP(CP)/CP_48_8.pdf; ComponentLink4Description: Product URL; ComponentLink4URL: http://www.analog.com/en/analog-to-digital-converters/ad-converters/ad9229/products/product.html
footprint CP-48-8_N (QFN, 48-Leads, Body 7x7mm, Pitch 0.5mm, Thermal Pad 5.5x5.5mm, IPC Medium Density)
footprint CP-48-8_L (QFN, 48-Leads, Body 7x7mm, Pitch 0.5mm, Thermal Pad 5.5x5.5mm, IPC High Density)
footprint CP-48-8_M (QFN, 48-Leads, Body 7x7mm, Pitch 0.5mm, Thermal Pad 5.5x5.5mm, IPC Low Density)
part A pins: 3 NC "No Connect", 4 DTP (in) "Digital Test Pattern Enable", 7 PDWN (in) "Power-Down Selection (AVDD = Power Down)", 10 VIN+A (in) "ADC A Analog Input--True", 11 VIN-A (in) "ADC A Analog Input--Complement", 13 VIN-B (in) "ADC B Analog Input--Complement", 14 VIN+B (in) "ADC B Analog Input--True", 17 SENSE (in) "Reference Mode Selection", 18 VREF (io) "Voltage Reference Input/Output", 19 REFB "Differential Reference (Bottom)", 20 REFT "Differential Reference (Top)", 23 VIN+C (in) "ADC C Analog Input--True", 24 VIN-C (in) "ADC C Analog Input--Complement", 26 VIN-D (in) "ADC D Analog Input--Complement", 27 VIN+D (in) "ADC D Analog Input--True", 30 CLK (in) "Input Clock", 34 LVDSBIAS (in) "LVDS Output Current Set Resistor Pin", 37 D-D (hiz) "ADC D Complement Digital Output", 38 D+D (hiz) "ADC D True Digital Output", 39 D-C (hiz) "ADC C Complement Digital Output", 40 D+C (hiz) "ADC C True Digital Output", 41 D-B (hiz) "ADC B Complement Digital Output", 42 D+B (hiz) "ADC B True Digital Output", 43 D-A (hiz) "ADC A Complement Digital Output", 44 D+A (hiz) "ADC A True Digital Output", 45 FCO- (out) "Frame Clock Indicator--Complement Output", 46 FCO+ (out) "Frame Clock Indicator--True Output", 47 DCO- (out) "Data Clock Output--Complement", 48 DCO+ (out) "Data Clock Output--True"
part B pins: 1 DRGND (power) "Digital Ground", 2 DRVDD (power) "Digital Output Supply", 5 AVDD (power) "Analog Supply", 6 AGND (power) "Analog Ground", 8 AVDD (power) "Analog Supply", 9 AGND (power) "Analog Ground", 12 AGND (power) "Analog Ground", 15 AGND (power) "Analog Ground", 16 AVDD (power) "Analog Supply", 21 AVDD (power) "Analog Supply", 22 AGND (power) "Analog Ground", 25 AGND (power) "Analog Ground", 28 AGND (power) "Analog Ground", 29 AVDD (power) "Analog Supply", 31 AGND (power) "Analog Ground", 32 AVDD (power) "Analog Supply", 33 AGND (power) "Analog Ground", 35 DRVDD (power) "Digital Output Supply", 36 DRGND (power) "Digital Ground", 49 EP (power) "Exposed Paddle/Thermal Heat Slug (Located on Bottom of Package)"

## AD9229ABCPZRL7-50
designator U?
Quad 12-Bit Analog-to-Digital Converter with Serial Interface, 50MSPS, -40 to +85 degC, CP-48-8, Pb-Free, Reel; Part Number: AD9229-50; Manufacturer: Analog Devices; Resolution (Bits): 12; Channels: 4; Throughput Rate (SPS): 50M; Interface: Ser; DatasheetVersion: Rev.B; PackageVersion: 02-23-2010-C; PackageReference: CP-48-8; PackageDescription: 48-Lead Lead Frame Chip Scale Package [LFCSP_VQ] 7 x 7 mm Body, Very Thin Quad; RoHS: Y; Packing: Reel; Mounting Technology: Surface Mount; Code_JEDEC: MO-220-VKKD-2; ComponentLink1Description: Manufacturer URL; ComponentLink1URL: http://www.analog.com/en/index.html; ComponentLink2Description: Datasheet; ComponentLink2URL: http://www.analog.com/static/imported-files/data_sheets/AD9229.pdf; ComponentLink3Description: Package Specification; ComponentLink3URL: http://www.analog.com/static/imported-files/packages/PKG_PDF/LFCSP(CP)/CP_48_8.pdf; ComponentLink4Description: Product URL; ComponentLink4URL: http://www.analog.com/en/analog-to-digital-converters/ad-converters/ad9229/products/product.html
footprint CP-48-8_N (QFN, 48-Leads, Body 7x7mm, Pitch 0.5mm, Thermal Pad 5.5x5.5mm, IPC Medium Density)
footprint CP-48-8_L (QFN, 48-Leads, Body 7x7mm, Pitch 0.5mm, Thermal Pad 5.5x5.5mm, IPC High Density)
footprint CP-48-8_M (QFN, 48-Leads, Body 7x7mm, Pitch 0.5mm, Thermal Pad 5.5x5.5mm, IPC Low Density)
part A pins: 3 NC "No Connect", 4 DTP (in) "Digital Test Pattern Enable", 7 PDWN (in) "Power-Down Selection (AVDD =Power Down)", 10 VIN+A (in) "ADC A Analog Input--True", 11 VIN-A (in) "ADC A Analog Input--Complement", 13 VIN-B (in) "ADC B Analog Input--Complement", 14 VIN+B (in) "ADC B Analog Input--True", 17 SENSE (in) "Reference Mode Selection", 18 VREF (io) "Voltage Reference Input/Output", 19 REFB "Differential Reference (Bottom)", 20 REFT "Differential Reference (Top)", 23 VIN+C (in) "ADC C Analog Input--True", 24 VIN-C (in) "ADC C Analog Input--Complement", 26 VIN-D (in) "ADC D Analog Input--Complement", 27 VIN+D (in) "ADC D Analog Input--True", 30 CLK (in) "Input Clock", 34 LVDSBIAS (in) "LVDS Output Current Set Resistor Pin", 37 D-D (hiz) "ADC D Complement Digital Output", 38 D+D (hiz) "ADC D True Digital Output", 39 D-C (hiz) "ADC C Complement Digital Output", 40 D+C (hiz) "ADC C True Digital Output", 41 D-B (hiz) "ADC B Complement Digital Output", 42 D+B (hiz) "ADC B True Digital Output", 43 D-A (hiz) "ADC A Complement Digital Output", 44 D+A (hiz) "ADC A True Digital Output", 45 FCO- (out) "Frame Clock Indicator--Complement Output", 46 FCO+ (out) "Frame Clock Indicator--True Output", 47 DCO- (out) "Data Clock Output--Complement", 48 DCO+ (out) "Data Clock Output--True"
part B pins: 1 DRGND (power) "Digital Ground", 2 DRVDD (power) "Digital Output Supply", 5 AVDD (power) "Analog Supply", 6 AGND (power) "Analog Ground", 8 AVDD (power) "Analog Supply", 9 AGND (power) "Analog Ground", 12 AGND (power) "Analog Ground", 15 AGND (power) "Analog Ground", 16 AVDD (power) "Analog Supply", 21 AVDD (power) "Analog Supply", 22 AGND (power) "Analog Ground", 25 AGND (power) "Analog Ground", 28 AGND (power) "Analog Ground", 29 AVDD (power) "Analog Supply", 31 AGND (power) "Analog Ground", 32 AVDD (power) "Analog Supply", 33 AGND (power) "Analog Ground", 35 DRVDD (power) "Digital Output Supply", 36 DRGND (power) "Digital Ground", 49 EP (power) "Exposed Paddle/Thermal Heat Slug (Located on Bottom of  Package)"

## AD9229ABCPZRL7-65
designator U?
Quad 12-Bit Analog-to-Digital Converter with Serial Interface, 65MSPS, -40 to +85 degC, CP-48-8, Pb-Free, Reel; Part Number: AD9229-65; Manufacturer: Analog Devices; Resolution (Bits): 12; Channels: 4; Throughput Rate (SPS): 65M; Interface: Ser; DatasheetVersion: Rev.B; PackageVersion: 02-23-2010-C; PackageReference: CP-48-8; PackageDescription: 48-Lead Lead Frame Chip Scale Package [LFCSP_VQ] 7 x 7 mm Body, Very Thin Quad; RoHS: Y; Packing: Reel; Mounting Technology: Surface Mount; Code_JEDEC: MO-220-VKKD-2; ComponentLink1Description: Manufacturer URL; ComponentLink1URL: http://www.analog.com/en/index.html; ComponentLink2Description: Datasheet; ComponentLink2URL: http://www.analog.com/static/imported-files/data_sheets/AD9229.pdf; ComponentLink3Description: Package Specification; ComponentLink3URL: http://www.analog.com/static/imported-files/packages/PKG_PDF/LFCSP(CP)/CP_48_8.pdf; ComponentLink4Description: Product URL; ComponentLink4URL: http://www.analog.com/en/analog-to-digital-converters/ad-converters/ad9229/products/product.html
footprint CP-48-8_N (QFN, 48-Leads, Body 7x7mm, Pitch 0.5mm, Thermal Pad 5.5x5.5mm, IPC Medium Density)
footprint CP-48-8_L (QFN, 48-Leads, Body 7x7mm, Pitch 0.5mm, Thermal Pad 5.5x5.5mm, IPC High Density)
footprint CP-48-8_M (QFN, 48-Leads, Body 7x7mm, Pitch 0.5mm, Thermal Pad 5.5x5.5mm, IPC Low Density)
part A pins: 3 NC "No Connect", 4 DTP (in) "Digital Test Pattern Enable", 7 PDWN (in) "Power-Down Selection (AVDD = Power Down)", 10 VIN+A (in) "ADC A Analog Input--True", 11 VIN-A (in) "ADC A Analog Input--Complement", 13 VIN-B (in) "ADC B Analog Input--Complement", 14 VIN+B (in) "ADC B Analog Input--True", 17 SENSE (in) "Reference Mode Selection", 18 VREF (io) "Voltage Reference Input/Output", 19 REFB "Differential Reference (Bottom)", 20 REFT "Differential Reference (Top)", 23 VIN+C (in) "ADC C Analog Input--True", 24 VIN-C (in) "ADC C Analog Input--Complement", 26 VIN-D (in) "ADC D Analog Input--Complement", 27 VIN+D (in) "ADC D Analog Input--True", 30 CLK (in) "Input Clock", 34 LVDSBIAS (in) "LVDS Output Current Set Resistor Pin", 37 D-D (hiz) "ADC D Complement Digital Output", 38 D+D (hiz) "ADC D True Digital Output", 39 D-C (hiz) "ADC C Complement Digital Output", 40 D+C (hiz) "ADC C True Digital Output", 41 D-B (hiz) "ADC B Complement Digital Output", 42 D+B (hiz) "ADC B True Digital Output", 43 D-A (hiz) "ADC A Complement Digital Output", 44 D+A (hiz) "ADC A True Digital Output", 45 FCO- (out) "Frame Clock Indicator--Complement Output", 46 FCO+ (out) "Frame Clock Indicator--True Output", 47 DCO- (out) "Data Clock Output--Complement", 48 DCO+ (out) "Data Clock Output--True"
part B pins: 1 DRGND (power) "Digital Ground", 2 DRVDD (power) "Digital Output Supply", 5 AVDD (power) "Analog Supply", 6 AGND (power) "Analog Ground", 8 AVDD (power) "Analog Supply", 9 AGND (power) "Analog Ground", 12 AGND (power) "Analog Ground", 15 AGND (power) "Analog Ground", 16 AVDD (power) "Analog Supply", 21 AVDD (power) "Analog Supply", 22 AGND (power) "Analog Ground", 25 AGND (power) "Analog Ground", 28 AGND (power) "Analog Ground", 29 AVDD (power) "Analog Supply", 31 AGND (power) "Analog Ground", 32 AVDD (power) "Analog Supply", 33 AGND (power) "Analog Ground", 35 DRVDD (power) "Digital Output Supply", 36 DRGND (power) "Digital Ground", 49 EP (power) "Exposed Paddle/Thermal Heat Slug (Located on Bottom of Package)"

## AD9230BCPZ11-200
designator U?
Single 11-Bit Analog-to-Digital Converter with LVDS, Parallel Interface, 1.8 V, 200MSPS, -40 to +85 degC, CP-56-2, Pb-Free, Tray; Part Number: AD9230-11; Manufacturer: Analog Devices; Resolution (Bits): 11; Channels: 1; Throughput Rate (SPS): 200M; DatasheetVersion: Rev.0; PackageVersion: 112805-0; PackageReference: CP-56-2; PackageDescription: 56-Lead Lead Frame Chip Scale Package [LFCSP_VQ] 8 x 8 mm Body, Very Thin Quad; Interface: LVDS, Par; RoHS: Y; Packing: Tray; Mounting Technology: Surface Mount; Code_JEDEC: MO-220-VLLD-2; ComponentLink1Description: Manufacturer URL; ComponentLink1URL: http://www.analog.com/en/index.html; ComponentLink2Description: Datasheet; ComponentLink2URL: http://www.analog.com/static/imported-files/data_sheets/AD9230-11.pdf; ComponentLink3Description: Package Specification; ComponentLink3URL: http://www.analog.com/static/imported-files/packages/PKG_PDF/LFCSP(CP)/CP-56/CP_56_2.pdf; ComponentLink4Description: Product URL; ComponentLink4URL: http://www.analog.com/en/analog-to-digital-converters/ad-converters/ad9230-11/products/product.html
footprint CP-56-2_N (QFN, 56-Leads, Body 8x8mm, Pitch 0.5mm, Thermal Pad 4.3x4.3mm, IPC Medium Density)
footprint CP-56-2_L (QFN, 56-Leads, Body 8x8mm, Pitch 0.5mm, Thermal Pad 4.3x4.3mm, IPC High Density)
footprint CP-56-2_M (QFN, 56-Leads, Body 8x8mm, Pitch 0.5mm, Thermal Pad 4.3x4.3mm, IPC Low Density)
part A pins: 1 D2-|D2/D8- (hiz), 2 D2+|D2/D8+ (hiz), 3 D3-|D3/D9- (hiz), 4 D3+|D3/D9+ (hiz), 5 D4-|D4/D10- (MSB) (hiz), 6 D4+|D4/D10+ (MSB) (hiz), 9 D5-|OR- (hiz), 10 D5+|OR+ (hiz), 11 D6-|DNC (hiz), 12 D6+|DNC (hiz), 13 D7-|DNC (hiz), 14 D7+|DNC (hiz), 15 D8-|DNC (hiz), 16 D8+|DNC (hiz), 17 D9-|DNC (hiz), 18 D9+|DNC (hiz), 19 D10-|DNC (hiz), 20 D10+|DNC (hiz), 21 OR-|DNC/(OR-) (hiz), 22 OR+|DNC/(OR+) (hiz), 25 SDIO/DCS (in) "Serial Port Interface (SPI) Data Input/Output (Serial Port Mode).   Duty Cycle Stabilizer Select (External Pin Mode).", 26 SCLK/DFS (io) "Serial Port Interface Clock (Serial Port Mode).   Data Format Select Pin (External Pin Mode).", 27 CSB (in) "Serial Port Chip Select (Active Low).", 28 ~{RESET} (in) "CMOS-Compatible Chip Reset (Active Low).", 29 PWDN (in) "Chip Power-Down.", 31 RBIAS (in) "Set Pin for Chip Bias Current. Place 1% 10 kO resistor terminated to ground. Nominally 0.5 V.", 35 VIN+ (in) "Analog Input (True).", 36 VIN- (in) "Analog Input (Complement).", 40 CML (out) "Common-Mode Output Pin. Enabled through the SPI, this pin provides a reference for the  optimized internal bias voltage for VIN+/VIN-.", 44 CLK+ (in) "Clock Input (True).", 45 CLK- (in) "Clock Input (Complement).", 49 DCO- (out) "Data Clock Output (Complement).", 50 DCO+ (out) "Data Clock Output Input (True).", 51 DNC|ND/D5- (hiz), 52 DNC|ND/D5+ (hiz), 53 D0- (LSB)|D0/D6- (LSB) (hiz), 54 D0+ (LSB)|D0/D6+ (LSB) (hiz), 55 D1-|D1/D7- (hiz), 56 D1+|D1/D7+ (hiz)
part B pins: 7 DRVDD (power) "1.8 V Digital Output Supply.", 8 DRGND (power) "Digital Output Ground.", 23 DRGND (power) "Digital Output Ground.", 24 DRVDD (power) "1.8 V Digital Output Supply.", 30 AVDD (power) "1.8 V Analog Supply.", 32 AVDD (power) "1.8 V Analog Supply.", 33 AVDD (power) "1.8 V Analog Supply.", 34 AVDD (power) "1.8 V Analog Supply.", 37 AVDD (power) "1.8 V Analog Supply.", 38 AVDD (power) "1.8 V Analog Supply.", 39 AVDD (power) "1.8 V Analog Supply.", 41 AVDD (power) "1.8 V Analog Supply.", 42 AVDD (power) "1.8 V Analog Supply.", 43 AVDD (power) "1.8 V Analog Supply.", 46 AVDD (power) "1.8 V Analog Supply.", 47 DRVDD (power) "1.8 V Digital Output Supply.", 48 DRGND (power) "Digital Output Ground.", 57 AGND (power) "Analog Ground. The exposed paddle should be connected to the analog ground."

## AD9230BCPZ-170
designator U?
Single 12-Bit Analog-to-Digital Converter with LVDS, Parallel Interface, 1.8 V, 170MSPS, -40 to +85 degC, CP-56-2, Pb-Free, Tray; Part Number: AD9230-170; Manufacturer: Analog Devices; Resolution (Bits): 12; Channels: 1; Throughput Rate (SPS): 170M; DatasheetVersion: Rev.0; PackageVersion: 112805-0; PackageReference: CP-56-2; PackageDescription: 56-Lead Lead Frame Chip Scale Package [LFCSP_VQ] 8 x 8 mm Body, Very Thin Quad; Interface: LVDS, Par; RoHS: Y; Packing: Tray; Mounting Technology: Surface Mount; Code_JEDEC: MO-220-VLLD-2; ComponentLink1Description: Manufacturer URL; ComponentLink1URL: http://www.analog.com/en/index.html; ComponentLink2Description: Datasheet; ComponentLink2URL: http://www.analog.com/static/imported-files/data_sheets/AD9230.pdf; ComponentLink3Description: Package Specification; ComponentLink3URL: http://www.analog.com/static/imported-files/packages/PKG_PDF/LFCSP(CP)/CP-56/CP_56_2.pdf; ComponentLink4Description: Product URL; ComponentLink4URL: http://www.analog.com/en/analog-to-digital-converters/ad-converters/ad9230/products/product.html
footprint CP-56-2_N (QFN, 56-Leads, Body 8x8mm, Pitch 0.5mm, Thermal Pad 4.3x4.3mm, IPC Medium Density)
footprint CP-56-2_L (QFN, 56-Leads, Body 8x8mm, Pitch 0.5mm, Thermal Pad 4.3x4.3mm, IPC High Density)
footprint CP-56-2_M (QFN, 56-Leads, Body 8x8mm, Pitch 0.5mm, Thermal Pad 4.3x4.3mm, IPC Low Density)
part A pins: 1 D3-|D3/D9- (hiz) "D3 Complement Output Bit.", 2 D3+|D3/D9+ (hiz) "D3 True Output Bit.", 3 D4-|D4/D10- (hiz) "D4 Complement Output Bit.", 4 D4+|D4/D10+ (hiz) "D4 True Output Bit.", 5 D5-|D5/D11- (hiz) "D5 Complement Output Bit.", 6 D5+|D5/D11+ (hiz) "D5 True Output Bit.", 9 D6-|OR- (hiz) "D6 Complement Output Bit.", 10 D6+|OR+ (hiz) "D6 True Output Bit.", 11 D7-|DNC (hiz) "D7 Complement Output Bit.", 12 D7+|DNC (hiz) "D7 True Output Bit.", 13 D8-|DNC (hiz) "D8 Complement Output Bit.", 14 D8+|DNC (hiz) "D8 True Output Bit.", 15 D9-|DNC (hiz) "D9 Complement Output Bit.", 16 D9+|DNC (hiz) "D9 True Output Bit.", 17 D10-|DNC (hiz) "D10 Complement Output Bit.", 18 D10+DNC (hiz) "D10 True Output Bit.", 19 D11-|DNC (hiz) "D11 Complement Output Bit (MSB).", 20 D11+|DNC (hiz) "D11 True Output Bit (MSB).", 21 OR-|DNC/(OR-) (hiz) "Overrange Complement Output Bit.", 22 OR+|DNC/(OR+) (hiz) "Overrange True Output Bit.", 25 SDIO/ DCS (io) "Serial Port Interface (SPI®) Data Input/Output (Serial Port Mode); Duty Cycle Stabilizer Select (External Pin Mode).", 26 SCLK/DFS (in) "Serial Port Interface Clock (Serial Port Mode); Data Format Select Pin (External Pin Mode).", 27 CSB (in) "Serial Port Chip Select (Active Low).", 28 ~{RESET} (in) "CMOS-Compatible Chip Reset (Active Low).", 29 PWDN (in) "Chip Power-Down.", 31 RBIAS (in) "Set Pin for Chip Bias Current. (Place 1% 10 kO resistor terminated to ground.) Nominally 0.5 V.", 35 VIN+ (in) "Analog Input--True.", 36 VIN- (in) "Analog Input--Complement.", 40 CML (out) "Common-Mode Output Pin. Enabled through the SPI, this pin provides a reference for the  optimized internal bias voltage for VIN+/VIN-.", 44 CLK+ (in) "Clock Input--True.", 45 CLK- (in) "Clock Input--Complement.", 49 DCO- (out) "Data Clock Output--Complement.", 50 DCO+ (out) "Data Clock Output--True.", 51 D0-|D0/D6- (hiz) "D0 Complement Output Bit (LSB).", 52 D0+|D0/D6+  (hiz) "D0 True Output Bit (LSB).", 53 D1-|D1/D7- (hiz) "D1 Complement Output Bit.", 54 D1+|D1/D7+ (hiz) "D1 True Output Bit.", 55 D2-|D2/D8- (hiz) "D2 Complement Output Bit.", 56 D2+|D2/D8+ (hiz) "D2 True Output Bit."
part B pins: 7 DRVDD (power) "1.8 V Digital Output Supply.", 8 DRGND (power) "Digital Output Ground.", 23 DRGND (power) "Digital Output Ground.", 24 DRVDD (power) "1.8 V Digital Output Supply.", 30 AVDD (power) "1.8 V Analog Supply.", 32 AVDD (power) "1.8 V Analog Supply.", 33 AVDD (power) "1.8 V Analog Supply.", 34 AVDD (power) "1.8 V Analog Supply.", 37 AVDD (power) "1.8 V Analog Supply.", 38 AVDD (power) "1.8 V Analog Supply.", 39 AVDD (power) "1.8 V Analog Supply.", 41 AVDD (power) "1.8 V Digital Output Supply.", 42 AVDD (power) "1.8 V Digital Output Supply.", 43 AVDD (power) "1.8 V Digital Output Supply.", 46 AVDD (power) "1.8 V Digital Output Supply.", 47 DRVDD (power) "1.8 V Digital Output Supply.", 48 DRGND (power) "Digital Output Ground.", 57 EP (power) "Analog Ground."

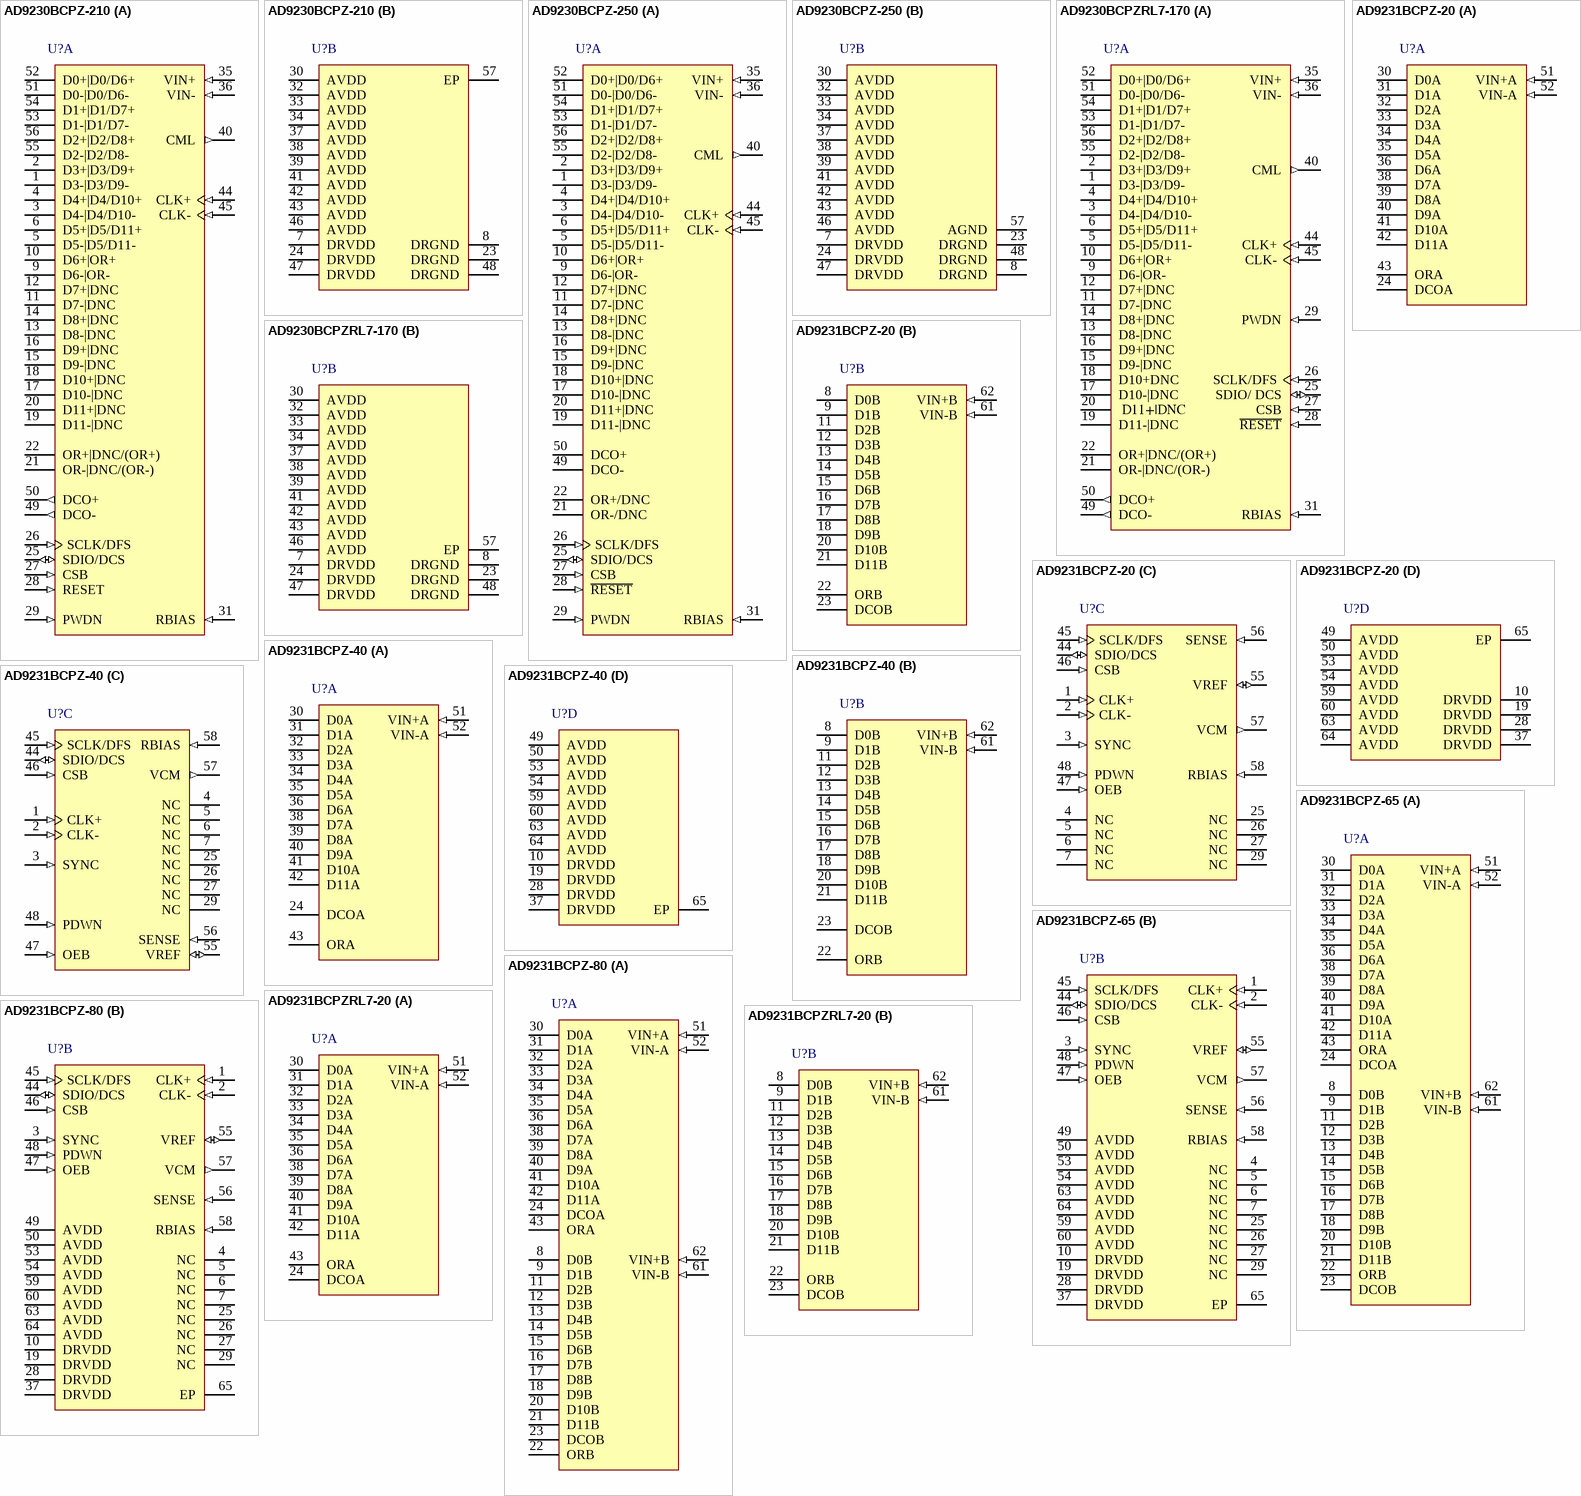
[diagram p107: symbols AD9230BCPZ-210 to AD9231BCPZRL7-20]